# EAGLE library part 691406710006B (library WR-TBL Spring Clamp)
WR-TBL Series 4067B - Screwless Push In 5.0mm pitch - Horizontal cable entry - THT KIND PROPERTIES Pitch 5 mm GENERAL INFORMATION Operating Temperature -40 up to +105 °C Mechanical Properties Wire Strip Length 9 up to 10 (mm) Wire Properties Solid Wire Section (AWG) 24 to 12 (AWG) Solid Wire Section (Metric) 0.2 to 2.5 (mm²) Stranded Wire Section (AWG) 24 to 12 (AWG) Stranded Wire Section (Metric) 0.2 to 2.5 (mm²) MATERIAL PROPERTIES Insulator Material PA66 Insulator Flammability Rating UL94 V-0 Insulator Color Green Spring Material Stainless Steel ELECTRICAL PROPERTIES IR cULus 20 A Working Voltage 300 V Working Voltage [cULus] 300 V Withstanding Voltage [cULus] 1600 V Contact Resistance [cULus] 20 mΩ CERTIFICATION cULus Approval E315414 Packaging Properties Packaging Box Details see: www.we-online.com/en/components/products/WR-TBL_SERIES_4067B_SCREWLESS-PUSH-IN-5_0MM-PITCH_HORIZONTAL-CABLE-ENTRY_THT Created by Ella Wu 2021-02-24 2021(C) Würth Elektronik
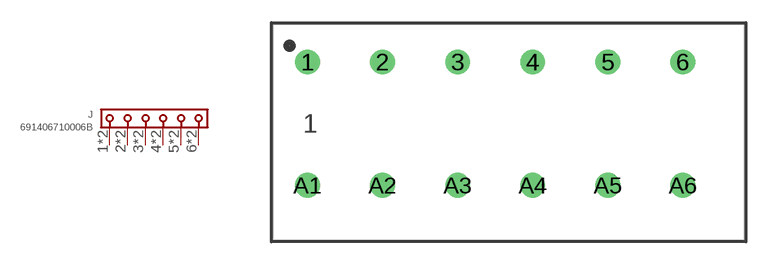
[diagram p117: symbol with the pads of 691406710006B; footprint 691406710006B]

Designator prefix J

## 691406710006B (APPLICATION: Screwless Push In; DATASHEET: https://www.we-online.com/redexpert/spec/691406710006B?ae; IR-UL: 20A; MODULARITY: Yes; MOUNT: THT; PART-NUMBER: 691406710006B; PINS: 6; PITCH: 5mm; TYPE: Horizontal; VALUE: 691406710006B; WIRE: 24 to 12 (AWG) 0.2 to 2.5 (mm²); WORKING-VOLTAGE-UL: 300V (AC))  [691406710006B]
1  1  pas
2  2  pas
3  3  pas
4  4  pas
5  5  pas
6  6  pas
A1  1  pas
A2  2  pas
A3  3  pas
A4  4  pas
A5  5  pas
A6  6  pas

## Footprint 691406710006B (pad centres in mm)
WR-TBL Series 4067B - Screwless Push In 5.0mm pitch - Horizontal cable entry - THT Series 4067B, Pitch 5mm,THT, 6pins
drill 1.1: 1 -12.5,4.1; 2 -7.5,4.1; 3 -2.5,4.1; 4 2.5,4.1; 5 7.5,4.1; 6 12.5,4.1; A1 -12.5,-4.1; A2 -7.5,-4.1; A3 -2.5,-4.1; A4 2.5,-4.1; A5 7.5,-4.1; A6 12.5,-4.1